# Altium footprint library SW_1437566-3.PcbLib: 1 footprints
Each footprint in its own frame and in the unit in brackets; x right, y up, seen from the top. Pads: shape width x height; smd on the part's side, far side on the other; paste and mask are expansions set on the pad; w line width, h text height; cw(c..) or ccw(c..) is an arc to the next point about the centre after c.
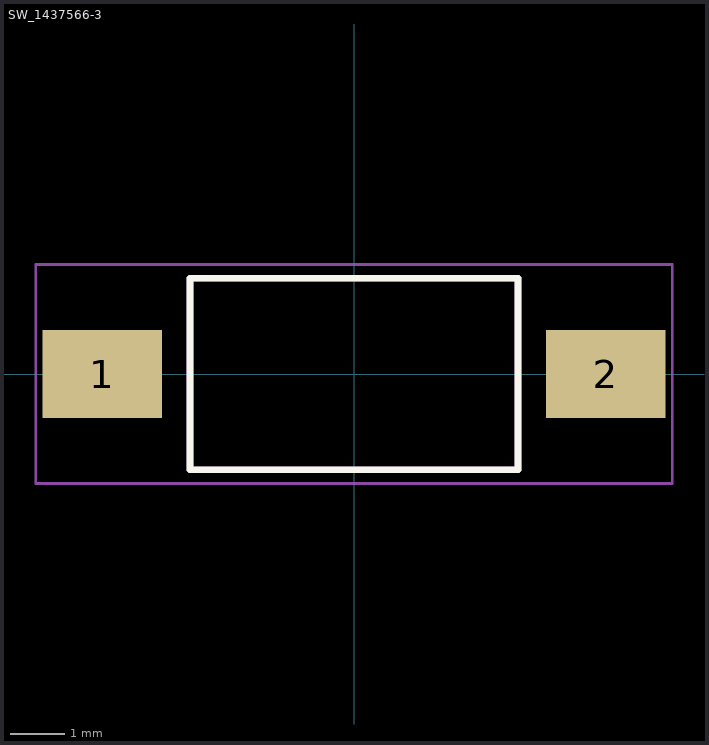
[diagram p0: the footprint, top view; thin cyan lines are the x and y axes]

## SW_1437566-3 [mm]
pads (2):
  rect 2.18x1.6 smd: 1(-4.6,0) 2(4.6,0)
Top Overlay:
  lines w0.127: -3,-1.75 3,-1.75 3,1.75 -3,1.75 -3,-1.75
Mechanical 13:
  lines w0.127: -3,-1.75 3,-1.75 3,1.75 -3,1.75 -3,-1.75
Mechanical 15:
  lines w0.05: -5.815,-2 5.815,-2 5.815,2 -5.815,2 -5.815,-2
3D body "c-1437566-3-c-3d.stp": height 4.39, standoff -0.02, extent -4.985,-1.75 4.985,1.75